# Altium footprint library SMPS.PcbLib: 5 footprints
Each footprint in its own frame and in the unit in brackets; x right, y up, seen from the top. Pads: shape width x height; smd on the part's side, far side on the other; paste and mask are expansions set on the pad; w line width, h text height; cw(c..) or ccw(c..) is an arc to the next point about the centre after c.
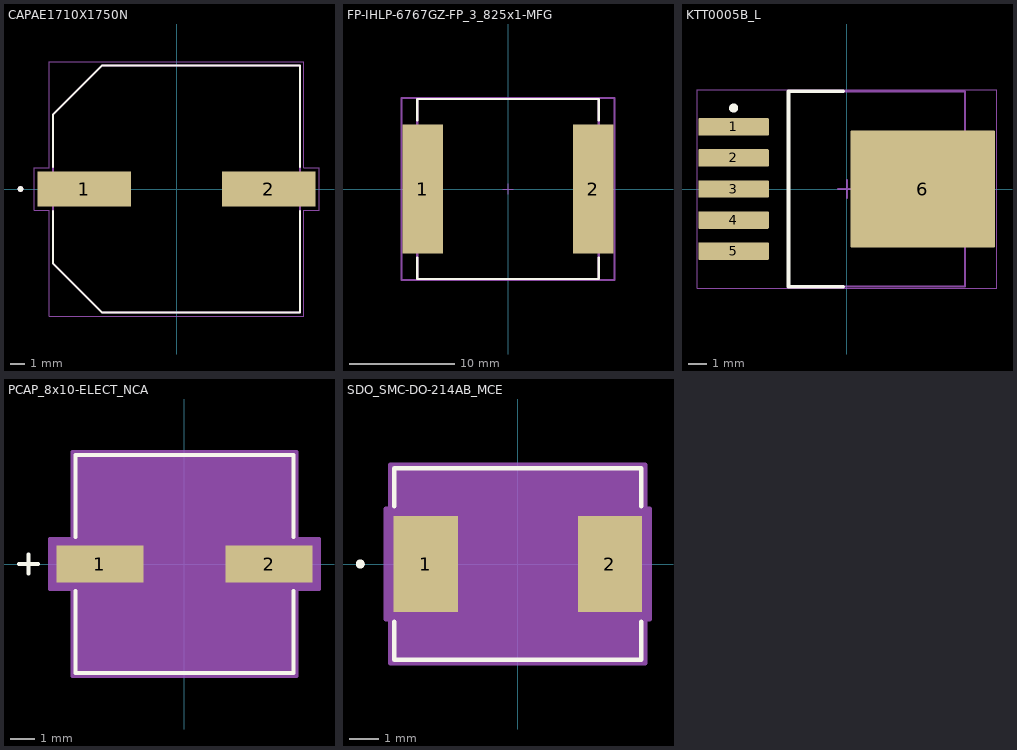
[diagram p0: the footprints below, top view; thin cyan lines are the x and y axes]

## CAPAE1710X1750N [mm]
pads (2):
  rect 6.46x2.42 smd: 1(-6.375,0) 2(6.375,0)
Top Overlay:
  circle w0.2: c-10.8,0 r0.1
  lines w0.127: -8.55,-1.53 -8.55,-5.13 -5.13,-8.55 8.55,-8.55 8.55,-1.53 ; -8.55,1.53 -8.55,5.13 -5.13,8.55 8.55,8.55 8.55,1.53
Mechanical 13:
  circle w0.2: c-10.8,0 r0.1
  lines w0.127: -8.55,-5.13 -5.13,-8.55 8.55,-8.55 8.55,8.55 -5.13,8.55 -8.55,5.13 -8.55,-5.13
Mechanical 15:
  lines w0.05: -9.855,-1.46 -8.8,-1.46 -8.8,-8.8 8.8,-8.8 8.8,-1.46 9.855,-1.46 9.855,1.46 8.8,1.46 8.8,8.8 -8.8,8.8 -8.8,1.46 -9.855,1.46 -9.855,-1.46
3D body "UCZ1H471MNQ1MS.STEP": height 17.5, standoff 0, extent -8.542,-8.591 9.558,8.509

## FP-IHLP-6767GZ-FP_3_825x1-MFG [mm]
pads (2):
  rect 3.825x12.32 smd paste+0 mask+0: 1(-8.117,0) 2(8.117,0)
Top Overlay:
  lines w0.2: -8.638,-6.535 -8.638,-8.575 8.638,-8.575 8.638,-6.535 ; -8.638,6.535 -8.638,8.575 8.638,8.575 8.638,6.535
Top 3D Body:
  lines w0.2: -8.638,-8.575 -8.638,8.575 8.638,8.575 8.638,-8.575 -8.638,-8.575
Top Courtyard:
  lines w0.2: -10.13,-8.675 -10.13,8.675 10.13,8.675 10.13,-8.675 -10.13,-8.675
Top Assembly:
  lines w0.2: -10.13,-8.675 -10.13,8.675 10.13,8.675 10.13,-8.675 -10.13,-8.675
Top Component Center:
  lines w0.1: -0.5,0 0.5,0 ; 0,-0.5 0,0.5
3D body "Ind_Vishay_IHLP6767GZER1R5M11_eec.STEP": height 0.25, standoff 0, extent -10.13,-8.675 10.13,8.675

## KTT0005B_L [mm] "DPAK, 5-Leads, Body 10.65x9.65mm, Pitch 1.7mm, IPC High Density"
height 4.83
pads (6):
  rrect11% 3.85x0.95 smd: 1(-6.2,3.4) 2(-6.2,1.7) 3(-6.2,0) 4(-6.2,-1.7) 5(-6.2,-3.4)
  rrect2% 7.9x6.4 smd: 6(4.15,0)
Top Overlay:
  circle w0.25: c-6.2,4.425 r0.125
  lines w0.2: -0.2,-5.35 -3.2,-5.35 -3.2,5.35 -0.2,5.35
Mechanical 1:
  text ".Designator" at -1.905,-0.508 h1.3
Mechanical 13:
  lines w0.1: -3.2,-5.325 6.45,-5.325 6.45,5.325 -3.2,5.325 -3.2,-5.325
Mechanical 15:
  lines w0.05: -8.2,-5.425 8.2,-5.425 8.2,5.425 -8.2,5.425 -8.2,-5.425
  lines w0.1: -0.5,0 0.5,0 ; 0,-0.5 0,0.5
3D body: height 4.83, standoff 0, extent -3.2,-5.325 6.45,5.325

## PCAP_8x10-ELECT_NCA [mil]
pads (2):
  rect 138x59 smd paste+0 mask+0: 1(-134,0) 2(134,0)
Top Overlay:
  lines w6: -262,0 -232,0 ; -247,-15 -247,15 ; -172.5,-42.6 -172.5,-172.5 172.5,-172.5 172.5,-42.6 ; -172.5,42.6 -172.5,172.5 172.5,172.5 172.5,42.6
Mechanical 13:
  lines w1: -262,0 -232,0 ; -247,-15 -247,15 ; -167.5,-83.75 -83.75,-167.5 ; -167.5,83.75 -83.75,167.5 ; -167.5,-167.5 -167.5,167.5 167.5,167.5 167.5,-167.5 -167.5,-167.5
Mechanical 15:
  region: -177.5,-39.5 -213,-39.5 -213,39.5 -177.5,39.5 -177.5,177.5 177.5,177.5 177.5,39.5 213,39.5 213,-39.5 177.5,-39.5 177.5,-177.5 -177.5,-177.5
  lines w6: -213,-39.5 -177.5,-39.5 -177.5,-177.5 177.5,-177.5 177.5,-39.5 213,-39.5 213,39.5 177.5,39.5 177.5,177.5 -177.5,177.5 -177.5,39.5 -213,39.5 -213,-39.5
3D body "PCAP_8x10-ELECT_NCA.step": height 407.09, standoff 0, extent -182.99,-167.48 182.99,167.48

## SDO_SMC-DO-214AB_MCE [mil]
pads (2):
  rect 86x128 smd paste+0 mask+0: 1(-123,0) 2(123,0)
Top Overlay:
  circle w6: c-210,0 r3
  lines w6: -165,-77.1 -165,-127.5 165,-127.5 165,-77.1 ; -165,77.1 -165,127.5 165,127.5 165,77.1
Mechanical 13:
  circle w0: c-150,0 r3
  lines w1: -160,-122.5 -160,122.5 160,122.5 160,-122.5 -160,-122.5
Mechanical 15:
  region: -170,-74 -176,-74 -176,74 -170,74 -170,132.5 170,132.5 170,74 176,74 176,-74 170,-74 170,-132.5 -170,-132.5
  lines w6: -176,-74 -170,-74 -170,-132.5 170,-132.5 170,-74 176,-74 176,74 170,74 170,132.5 -170,132.5 -170,74 -176,74 -176,-74
3D body "SDO_SMC-DO-214AB_MCE.step": height 105, standoff 0, extent -160,-122.52 160,122.52